# Altium schematic symbol library Microcontrollers.SchLib: 1 symbol
Pins are listed as number, name and electrical type; pins without a type are passive.

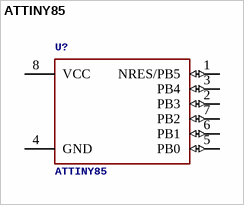
[diagram p0: symbol ATTINY85]

## ATTINY85
designator U?
ATTINY85-20PU; Price: 1.2; Package: DIP-8
footprint DIP8
pins: 1 NRES/PB5 (io), 2 PB3 (io), 3 PB4 (io), 4 GND (power), 5 PB0 (io), 6 PB1 (io), 7 PB2 (io), 8 VCC (power)